# Altium integrated library Silicon Labs Wireless.IntLib: 71 symbols (part 3 of 7)
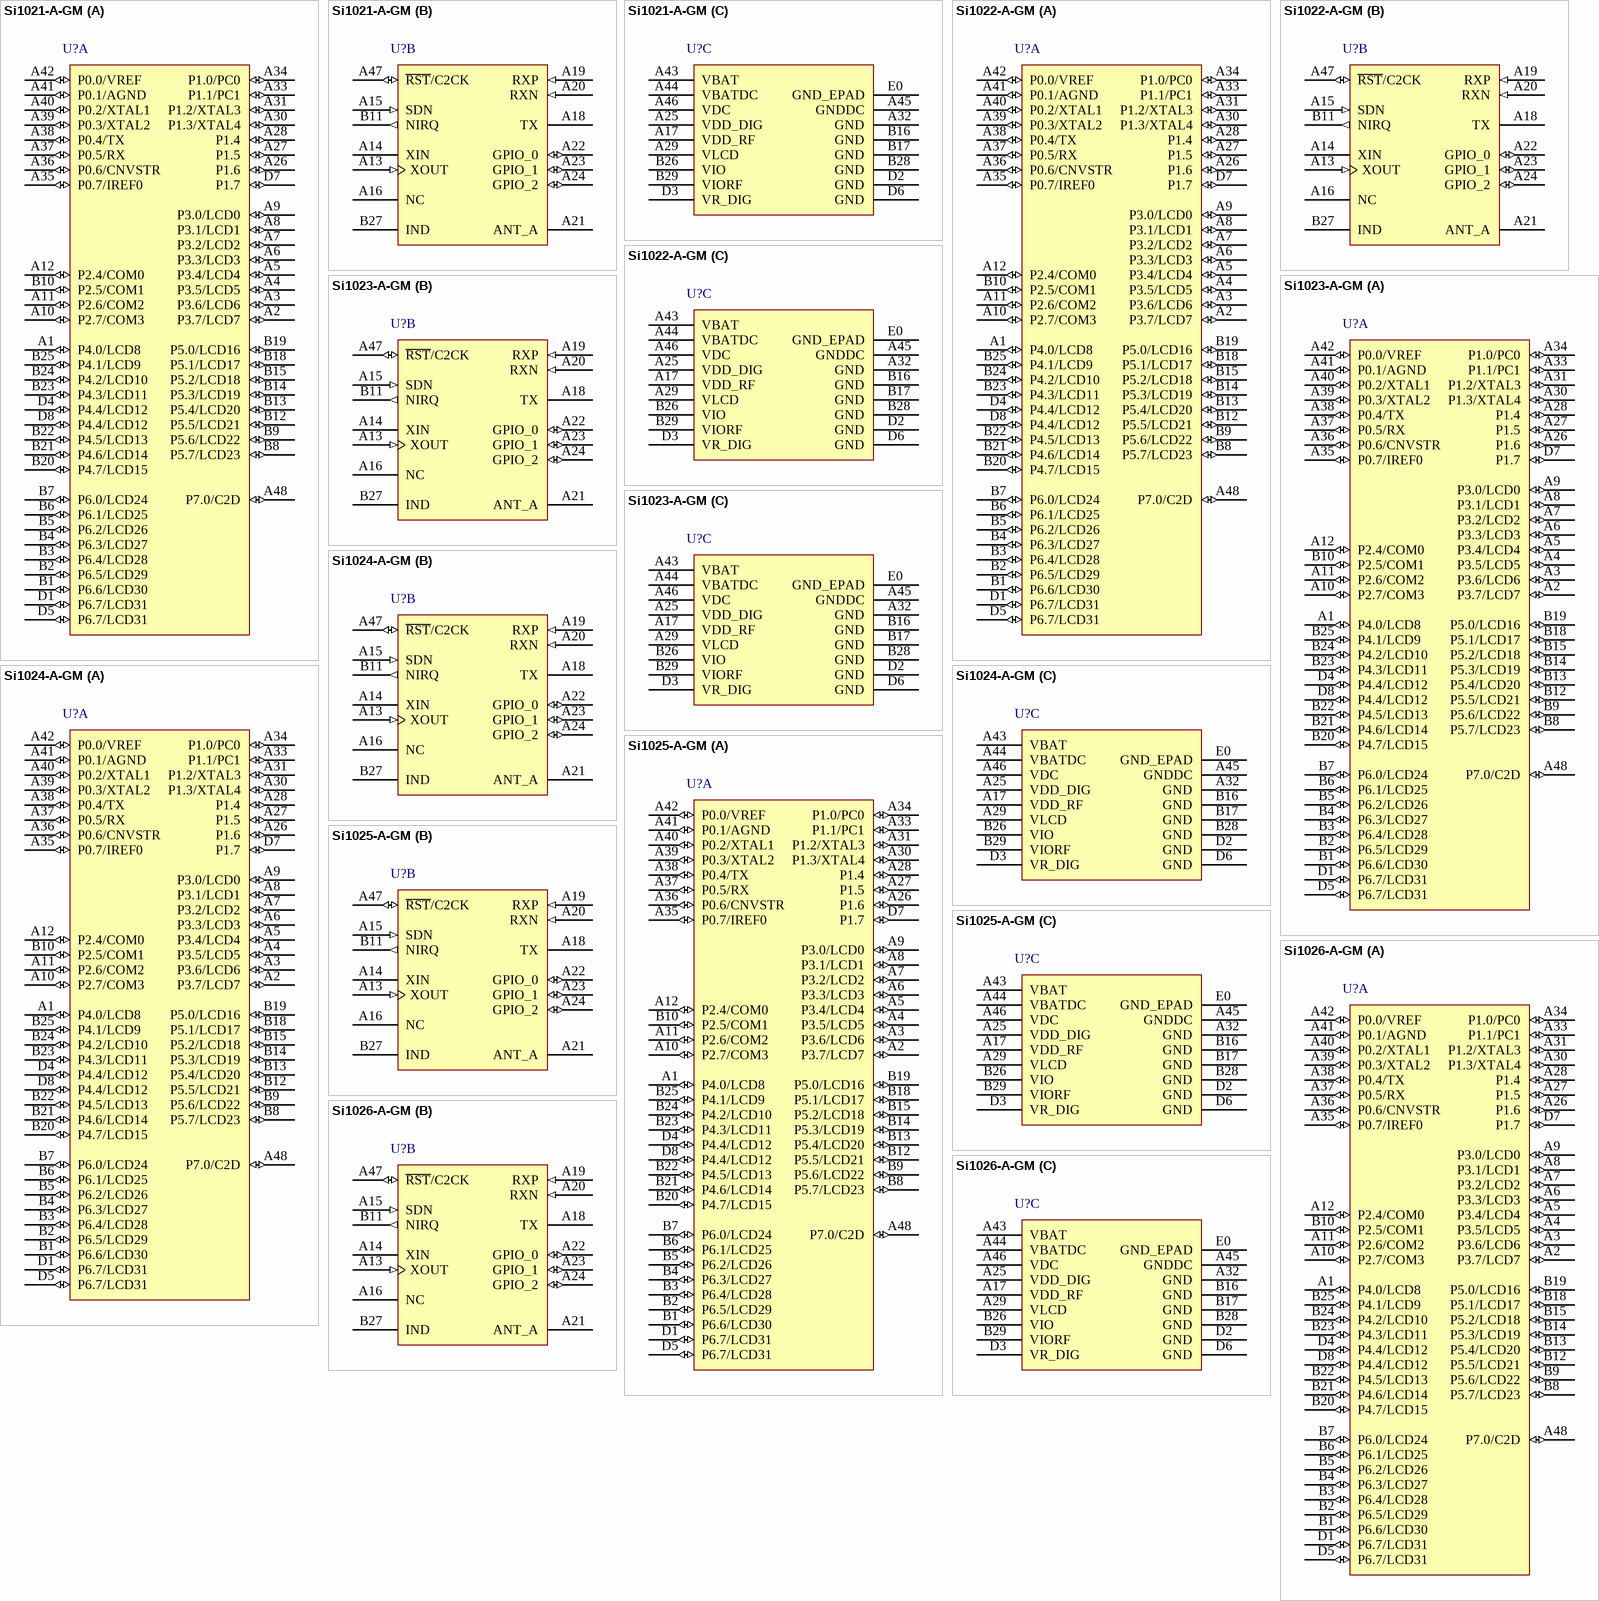
[diagram p8: symbols Si1021-A-GM to Si1026-A-GM]

## Si1021-A-GM
designator U?
Ultra Low Power, LCD MCU Family, 64 kB Flash, 4 Timers (16-Bit), -40 to 85 degC, 85-pin LGA, Tray; Manufacturer: Silicon Labs; PartNumber: Si1021-A-GM; Comparators: 2; Dig I/O Pins: 53; Flash: 64 kB; Frequency Range: 240 to 960 MHz; FSK/GFSK Data Rate: 256 kbps; Internal Osc. Accuracy: +/-2%; OOK Data Rate: 40 kbps; Output Power: 1 to 20 dBm; PCA Channels: 6; Temp Sensor: TRUE; Timers (16-bit): 4; Sub-Family: Wireless MCUs; DatasheetVersion: Rev. 0.3; PackageReference: LGA-85; PackageDescription: 85-Pin Land Grid Array, Body 6 x 8 mm, Pitch 0.5 mm; Supplier 1: Digi-Key; Supplier Part Number 1: 336-2174-ND; Supplier 2: Mouser; Supplier Part Number 2: 634-SI1021-A-GM; Packing: Tray; Mounting Technology: Surface Mount; Code_IPC: J-STD-020; ComponentLink1Description: Manufacturer URL; ComponentLink1URL: http://www.silabs.com/; ComponentLink2Description: Datasheet; ComponentLink2URL: http://www.silabs.com/Support Documents/TechnicalDocs/Si102x-3x.pdf; ComponentLink3Description: Package Specification; ComponentLink3URL: http://www.silabs.com/Support%20Documents/TechnicalDocs/Si102x-3x.pdf
footprint SLAB-LGA-85_V (LGA, 85-Leads, Body 8x6mm, Thermal Pad 2.4x5.6mm)
part A pins: A1 P4.0/LCD8 (io), A2 P3.7/LCD7 (io), A3 P3.6/LCD6 (io), A4 P3.5/LCD5 (io), A5 P3.4/LCD4 (io), A6 P3.3/LCD3 (io), A7 P3.2/LCD2 (io), A8 P3.1/LCD1 (io), A9 P3.0/LCD0 (io), A10 P2.7/COM3 (io), A11 P2.6/COM2 (io), A12 P2.4/COM0 (io), A26 P1.6 (io) "Port 1.6. See Port I/O Section for a complete description.", A27 P1.5 (io) "Port 1.5. See Port I/O Section for a complete description.", A28 P1.4 (io) "Port 1.4. See Port I/O Section for a complete description.", A30 P1.3/XTAL4 (io), A31 P1.2/XTAL3 (io), A33 P1.1/PC1 (io), A34 P1.0/PC0 (io), A35 P0.7/IREF0 (io), A36 P0.6/CNVSTR (io), A37 P0.5/RX (io), A38 P0.4/TX (io), A39 P0.3/XTAL2 (io), A40 P0.2/XTAL1 (io), A41 P0.1/AGND (io), A42 P0.0/VREF (io), A48 P7.0/C2D (io), B1 P6.6/LCD30 (io), B2 P6.5/LCD29 (io), B3 P6.4/LCD28 (io), B4 P6.3/LCD27 (io), B5 P6.2/LCD26 (io), B6 P6.1/LCD25 (io), B7 P6.0/LCD24 (io), B8 P5.7/LCD23 (io), B9 P5.6/LCD22 (io), B10 P2.5/COM1 (io), B12 P5.5/LCD21 (io), B13 P5.4/LCD20 (io), B14 P5.3/LCD19 (io), B15 P5.2/LCD18 (io), B18 P5.1/LCD17 (io), B19 P5.0/LCD16 (io), B20 P4.7/LCD15 (io), B21 P4.6/LCD14 (io), B22 P4.5/LCD13 (io), B23 P4.3/LCD11 (io), B24 P4.2/LCD10 (io), B25 P4.1/LCD9 (io), D1 P6.7/LCD31 (io), D4 P4.4/LCD12 (io), D5 P6.7/LCD31 (io), D7 P1.7 (io) "Port 1.7. See Port I/O Section for a complete description.", D8 P4.4/LCD12 (io)
part B pins: A13 XOUT (in) "Crystal Oscillator Output/External Reference Input. Connect to an external 30 MHz crystal or to an external source. If using an external source with no crystal, then DC coupling with a nominal 0.8 VDC level is recommended (See Datasheet)", A14 XIN "Crystal Oscillator Input. Connect to an external 30 MHz crystal or leave floating when driving with an external source on XOUT.", A15 SDN (in) "Shutdown input pin. SDN should be low in all modes except Shutdown mode. When SDN is high, the radio will be completely shut down, and the contents of the registers will be lost.", A16 NC "No Connect. Not connected internally to any circuitry.", A18 TX (oc) "Transmit output pin. The PA output is an open-drain connection so the L-C match must supply VDD (+3.3 VDC nominal) to this pin.", A19 RXP (in) "Differential RF input pins of the LNA. See application schematic for example matching network.", A20 RXN (in) "Differential RF input pins of the LNA. See application schematic for example matching network.", A21 ANT_A "Extra antenna or TR switch control to be used if more GPIO are required. Pin is a hardwired version of GPIO setting 11000, Antenna 2 and can be manually controlled by the antdiv[2:0] bits in register 08h. See register (See Datasheet)", A22 GPIO_0 (io) "General Purpose Digital I/O that may be configured through the registers to perform various functions including: Microcontroller Clock Output, FIFO status, POR, Wake-Up timer, Low Battery Detect, T/R switch, AntDiversity (See Datasheet)", A23 GPIO_1 (io) "General Purpose Digital I/O that may be configured through the registers to perform various functions including: Microcontroller Clock Output, FIFO status, POR, Wake-Up timer, Low Battery Detect, T/R switch, AntDiversity (See Datasheet)", A24 GPIO_2 (io) "General Purpose Digital I/O that may be configured through the registers to perform various functions including: Microcontroller Clock Output, FIFO status, POR, Wake-Up timer, Low Battery Detect, T/R switch, AntDiversity (See Datasheet)", A47 ~{RST}/C2CK (io), B11 NIRQ (out) "General Microcontroller Interrupt Status output. When the EZRadioPRO transceiver exhibits anyone of the Interrupt Events, the nIRQ pin will be set low. Please see the Control Logic registers section for more information on (See Datasheet)", B27 IND "DC-DC Inductor Pin. This pin requires a 560 nH inductor to VDC if the DC-DC converter is used."
part C pins: A17 VDD_RF (power) "+1.8 to +3.6 V supply voltage input to all analog +1.7 V regulators. The recommended VDD supply voltage is +3.3 V", A25 VDD_DIG (power) "+1.8 to +3.6 V supply voltage input to the Digital +1.7 V regulator. The recommended VDD supply voltage is +3.3 V.", A29 VLCD (power) "LCD Power Supply. This pin requires a 10 uF capacitor to stabilize the charge pump.", A32 GND (power) "Required Ground.", A43 VBAT (power) "Battery Supply Voltage. Must be 1.8 to 3.8 V.", A44 VBATDC (power) "DC0 Input Voltage. Must be 1.8 to 3.8 V.", A45 GNDDC (power) "DC-DC converter return current path. This pin is typically tied to the ground plane.", A46 VDC (power) "Alternate Power Supply Voltage. Must be 1.8 to 3.6 V. This supply voltage must always be <= VBAT. Software may select this supply voltage to power the digital logic. Positive output of the DC-DC converter. A 1 uF to 10 uF (See Datasheet)", B16 GND (power) "Required Ground.", B17 GND (power) "Required Ground.", B26 VIO (power) "I/O Power Supply for P0.0-P1.4 and P2.4-P7.0 pins. This supply voltage must always be <= VBAT.", B28 GND (power) "Required Ground.", B29 VIORF (power) "I/O Power Supply for P1.5-P2.3 pins. This supply voltage must always be <= VBAT", D2 GND (power) "Required Ground.", D3 VR_DIG (power) "Regulated Output Voltage of the Digital 1.7 V regulator. A 1 uF decoupling capacitor is required.", D6 GND (power) "Required Ground.", E0 GND_EPAD (power)

## Si1022-A-GM
designator U?
Ultra Low Power, LCD MCU Family, 32 kB Flash, 4 Timers (16-Bit), -40 to 85 degC, 85-pin LGA, Tray; Manufacturer: Silicon Labs; PartNumber: Si1022-A-GM; Comparators: 2; Dig I/O Pins: 53; Flash: 32 kB; Frequency Range: 240 to 960 MHz; FSK/GFSK Data Rate: 256 kbps; Internal Osc. Accuracy: +/-2%; OOK Data Rate: 40 kbps; Output Power: 1 to 20 dBm; PCA Channels: 6; Temp Sensor: TRUE; Timers (16-bit): 4; Sub-Family: Wireless MCUs; DatasheetVersion: Rev. 0.3; PackageReference: LGA-85; PackageDescription: 85-Pin Land Grid Array, Body 6 x 8 mm, Pitch 0.5 mm; Supplier 1: Digi-Key; Supplier Part Number 1: 336-2175-ND; Supplier 2: Mouser; Supplier Part Number 2: 634-SI1022-A-GM; Packing: Tray; Mounting Technology: Surface Mount; Code_IPC: J-STD-020; ComponentLink1Description: Manufacturer URL; ComponentLink1URL: http://www.silabs.com/; ComponentLink2Description: Datasheet; ComponentLink2URL: http://www.silabs.com/Support Documents/TechnicalDocs/Si102x-3x.pdf; ComponentLink3Description: Package Specification; ComponentLink3URL: http://www.silabs.com/Support%20Documents/TechnicalDocs/Si102x-3x.pdf
footprint SLAB-LGA-85_V (LGA, 85-Leads, Body 8x6mm, Thermal Pad 2.4x5.6mm)
part A pins: A1 P4.0/LCD8 (io), A2 P3.7/LCD7 (io), A3 P3.6/LCD6 (io), A4 P3.5/LCD5 (io), A5 P3.4/LCD4 (io), A6 P3.3/LCD3 (io), A7 P3.2/LCD2 (io), A8 P3.1/LCD1 (io), A9 P3.0/LCD0 (io), A10 P2.7/COM3 (io), A11 P2.6/COM2 (io), A12 P2.4/COM0 (io), A26 P1.6 (io) "Port 1.6. See Port I/O Section for a complete description.", A27 P1.5 (io) "Port 1.5. See Port I/O Section for a complete description.", A28 P1.4 (io) "Port 1.4. See Port I/O Section for a complete description.", A30 P1.3/XTAL4 (io), A31 P1.2/XTAL3 (io), A33 P1.1/PC1 (io), A34 P1.0/PC0 (io), A35 P0.7/IREF0 (io), A36 P0.6/CNVSTR (io), A37 P0.5/RX (io), A38 P0.4/TX (io), A39 P0.3/XTAL2 (io), A40 P0.2/XTAL1 (io), A41 P0.1/AGND (io), A42 P0.0/VREF (io), A48 P7.0/C2D (io), B1 P6.6/LCD30 (io), B2 P6.5/LCD29 (io), B3 P6.4/LCD28 (io), B4 P6.3/LCD27 (io), B5 P6.2/LCD26 (io), B6 P6.1/LCD25 (io), B7 P6.0/LCD24 (io), B8 P5.7/LCD23 (io), B9 P5.6/LCD22 (io), B10 P2.5/COM1 (io), B12 P5.5/LCD21 (io), B13 P5.4/LCD20 (io), B14 P5.3/LCD19 (io), B15 P5.2/LCD18 (io), B18 P5.1/LCD17 (io), B19 P5.0/LCD16 (io), B20 P4.7/LCD15 (io), B21 P4.6/LCD14 (io), B22 P4.5/LCD13 (io), B23 P4.3/LCD11 (io), B24 P4.2/LCD10 (io), B25 P4.1/LCD9 (io), D1 P6.7/LCD31 (io), D4 P4.4/LCD12 (io), D5 P6.7/LCD31 (io), D7 P1.7 (io) "Port 1.7. See Port I/O Section for a complete description.", D8 P4.4/LCD12 (io)
part B pins: A13 XOUT (in) "Crystal Oscillator Output/External Reference Input. Connect to an external 30 MHz crystal or to an external source. If using an external source with no crystal, then DC coupling with a nominal 0.8 VDC level is recommended (See Datasheet)", A14 XIN "Crystal Oscillator Input. Connect to an external 30 MHz crystal or leave floating when driving with an external source on XOUT.", A15 SDN (in) "Shutdown input pin. SDN should be low in all modes except Shutdown mode. When SDN is high, the radio will be completely shut down, and the contents of the registers will be lost.", A16 NC "No Connect. Not connected internally to any circuitry.", A18 TX (oc) "Transmit output pin. The PA output is an open-drain connection so the L-C match must supply VDD (+3.3 VDC nominal) to this pin.", A19 RXP (in) "Differential RF input pins of the LNA. See application schematic for example matching network.", A20 RXN (in) "Differential RF input pins of the LNA. See application schematic for example matching network.", A21 ANT_A "Extra antenna or TR switch control to be used if more GPIO are required. Pin is a hardwired version of GPIO setting 11000, Antenna 2 and can be manually controlled by the antdiv[2:0] bits in register 08h. See register (See Datasheet)", A22 GPIO_0 (io) "General Purpose Digital I/O that may be configured through the registers to perform various functions including: Microcontroller Clock Output, FIFO status, POR, Wake-Up timer, Low Battery Detect, T/R switch, AntDiversity (See Datasheet)", A23 GPIO_1 (io) "General Purpose Digital I/O that may be configured through the registers to perform various functions including: Microcontroller Clock Output, FIFO status, POR, Wake-Up timer, Low Battery Detect, T/R switch, AntDiversity (See Datasheet)", A24 GPIO_2 (io) "General Purpose Digital I/O that may be configured through the registers to perform various functions including: Microcontroller Clock Output, FIFO status, POR, Wake-Up timer, Low Battery Detect, T/R switch, AntDiversity (See Datasheet)", A47 ~{RST}/C2CK (io), B11 NIRQ (out) "General Microcontroller Interrupt Status output. When the EZRadioPRO transceiver exhibits anyone of the Interrupt Events, the nIRQ pin will be set low. Please see the Control Logic registers section for more information on (See Datasheet)", B27 IND "DC-DC Inductor Pin. This pin requires a 560 nH inductor to VDC if the DC-DC converter is used."
part C pins: A17 VDD_RF (power) "+1.8 to +3.6 V supply voltage input to all analog +1.7 V regulators. The recommended VDD supply voltage is +3.3 V", A25 VDD_DIG (power) "+1.8 to +3.6 V supply voltage input to the Digital +1.7 V regulator. The recommended VDD supply voltage is +3.3 V.", A29 VLCD (power) "LCD Power Supply. This pin requires a 10 uF capacitor to stabilize the charge pump.", A32 GND (power) "Required Ground.", A43 VBAT (power) "Battery Supply Voltage. Must be 1.8 to 3.8 V.", A44 VBATDC (power) "DC0 Input Voltage. Must be 1.8 to 3.8 V.", A45 GNDDC (power) "DC-DC converter return current path. This pin is typically tied to the ground plane.", A46 VDC (power) "Alternate Power Supply Voltage. Must be 1.8 to 3.6 V. This supply voltage must always be <= VBAT. Software may select this supply voltage to power the digital logic. Positive output of the DC-DC converter. A 1 uF to 10 uF (See Datasheet)", B16 GND (power) "Required Ground.", B17 GND (power) "Required Ground.", B26 VIO (power) "I/O Power Supply for P0.0-P1.4 and P2.4-P7.0 pins. This supply voltage must always be <= VBAT.", B28 GND (power) "Required Ground.", B29 VIORF (power) "I/O Power Supply for P1.5-P2.3 pins. This supply voltage must always be <= VBAT", D2 GND (power) "Required Ground.", D3 VR_DIG (power) "Regulated Output Voltage of the Digital 1.7 V regulator. A 1 uF decoupling capacitor is required.", D6 GND (power) "Required Ground.", E0 GND_EPAD (power)

## Si1023-A-GM
designator U?
Ultra Low Power, LCD MCU Family, 16 kB Flash, 4 Timers (16-Bit), -40 to 85 degC, 85-pin LGA, Tray; Manufacturer: Silicon Labs; PartNumber: Si1023-A-GM; Comparators: 2; Dig I/O Pins: 53; Flash: 16 kB; Frequency Range: 240 to 960 MHz; FSK/GFSK Data Rate: 256 kbps; Internal Osc. Accuracy: +/-2%; OOK Data Rate: 40 kbps; Output Power: 1 to 20 dBm; PCA Channels: 6; Temp Sensor: TRUE; Timers (16-bit): 4; Sub-Family: Wireless MCUs; DatasheetVersion: Rev. 0.3; PackageReference: LGA-85; PackageDescription: 85-Pin Land Grid Array, Body 6 x 8 mm, Pitch 0.5 mm; Supplier 1: Digi-Key; Supplier Part Number 1: 336-2176-ND; Supplier 2: Mouser; Supplier Part Number 2: 634-SI1023-A-GM; Packing: Tray; Mounting Technology: Surface Mount; Code_IPC: J-STD-020; ComponentLink1Description: Manufacturer URL; ComponentLink1URL: http://www.silabs.com/; ComponentLink2Description: Datasheet; ComponentLink2URL: http://www.silabs.com/Support Documents/TechnicalDocs/Si102x-3x.pdf; ComponentLink3Description: Package Specification; ComponentLink3URL: http://www.silabs.com/Support%20Documents/TechnicalDocs/Si102x-3x.pdf
footprint SLAB-LGA-85_V (LGA, 85-Leads, Body 8x6mm, Thermal Pad 2.4x5.6mm)
part A pins: A1 P4.0/LCD8 (io), A2 P3.7/LCD7 (io), A3 P3.6/LCD6 (io), A4 P3.5/LCD5 (io), A5 P3.4/LCD4 (io), A6 P3.3/LCD3 (io), A7 P3.2/LCD2 (io), A8 P3.1/LCD1 (io), A9 P3.0/LCD0 (io), A10 P2.7/COM3 (io), A11 P2.6/COM2 (io), A12 P2.4/COM0 (io), A26 P1.6 (io) "Port 1.6. See Port I/O Section for a complete description.", A27 P1.5 (io) "Port 1.5. See Port I/O Section for a complete description.", A28 P1.4 (io) "Port 1.4. See Port I/O Section for a complete description.", A30 P1.3/XTAL4 (io), A31 P1.2/XTAL3 (io), A33 P1.1/PC1 (io), A34 P1.0/PC0 (io), A35 P0.7/IREF0 (io), A36 P0.6/CNVSTR (io), A37 P0.5/RX (io), A38 P0.4/TX (io), A39 P0.3/XTAL2 (io), A40 P0.2/XTAL1 (io), A41 P0.1/AGND (io), A42 P0.0/VREF (io), A48 P7.0/C2D (io), B1 P6.6/LCD30 (io), B2 P6.5/LCD29 (io), B3 P6.4/LCD28 (io), B4 P6.3/LCD27 (io), B5 P6.2/LCD26 (io), B6 P6.1/LCD25 (io), B7 P6.0/LCD24 (io), B8 P5.7/LCD23 (io), B9 P5.6/LCD22 (io), B10 P2.5/COM1 (io), B12 P5.5/LCD21 (io), B13 P5.4/LCD20 (io), B14 P5.3/LCD19 (io), B15 P5.2/LCD18 (io), B18 P5.1/LCD17 (io), B19 P5.0/LCD16 (io), B20 P4.7/LCD15 (io), B21 P4.6/LCD14 (io), B22 P4.5/LCD13 (io), B23 P4.3/LCD11 (io), B24 P4.2/LCD10 (io), B25 P4.1/LCD9 (io), D1 P6.7/LCD31 (io), D4 P4.4/LCD12 (io), D5 P6.7/LCD31 (io), D7 P1.7 (io) "Port 1.7. See Port I/O Section for a complete description.", D8 P4.4/LCD12 (io)
part B pins: A13 XOUT (in) "Crystal Oscillator Output/External Reference Input. Connect to an external 30 MHz crystal or to an external source. If using an external source with no crystal, then DC coupling with a nominal 0.8 VDC level is recommended (See Datasheet)", A14 XIN "Crystal Oscillator Input. Connect to an external 30 MHz crystal or leave floating when driving with an external source on XOUT.", A15 SDN (in) "Shutdown input pin. SDN should be low in all modes except Shutdown mode. When SDN is high, the radio will be completely shut down, and the contents of the registers will be lost.", A16 NC "No Connect. Not connected internally to any circuitry.", A18 TX (oc) "Transmit output pin. The PA output is an open-drain connection so the L-C match must supply VDD (+3.3 VDC nominal) to this pin.", A19 RXP (in) "Differential RF input pins of the LNA. See application schematic for example matching network.", A20 RXN (in) "Differential RF input pins of the LNA. See application schematic for example matching network.", A21 ANT_A "Extra antenna or TR switch control to be used if more GPIO are required. Pin is a hardwired version of GPIO setting 11000, Antenna 2 and can be manually controlled by the antdiv[2:0] bits in register 08h. See register (See Datasheet)", A22 GPIO_0 (io) "General Purpose Digital I/O that may be configured through the registers to perform various functions including: Microcontroller Clock Output, FIFO status, POR, Wake-Up timer, Low Battery Detect, T/R switch, AntDiversity (See Datasheet)", A23 GPIO_1 (io) "General Purpose Digital I/O that may be configured through the registers to perform various functions including: Microcontroller Clock Output, FIFO status, POR, Wake-Up timer, Low Battery Detect, T/R switch, AntDiversity (See Datasheet)", A24 GPIO_2 (io) "General Purpose Digital I/O that may be configured through the registers to perform various functions including: Microcontroller Clock Output, FIFO status, POR, Wake-Up timer, Low Battery Detect, T/R switch, AntDiversity (See Datasheet)", A47 ~{RST}/C2CK (io), B11 NIRQ (out) "General Microcontroller Interrupt Status output. When the EZRadioPRO transceiver exhibits anyone of the Interrupt Events, the nIRQ pin will be set low. Please see the Control Logic registers section for more information on (See Datasheet)", B27 IND "DC-DC Inductor Pin. This pin requires a 560 nH inductor to VDC if the DC-DC converter is used."
part C pins: A17 VDD_RF (power) "+1.8 to +3.6 V supply voltage input to all analog +1.7 V regulators. The recommended VDD supply voltage is +3.3 V", A25 VDD_DIG (power) "+1.8 to +3.6 V supply voltage input to the Digital +1.7 V regulator. The recommended VDD supply voltage is +3.3 V.", A29 VLCD (power) "LCD Power Supply. This pin requires a 10 uF capacitor to stabilize the charge pump.", A32 GND (power) "Required Ground.", A43 VBAT (power) "Battery Supply Voltage. Must be 1.8 to 3.8 V.", A44 VBATDC (power) "DC0 Input Voltage. Must be 1.8 to 3.8 V.", A45 GNDDC (power) "DC-DC converter return current path. This pin is typically tied to the ground plane.", A46 VDC (power) "Alternate Power Supply Voltage. Must be 1.8 to 3.6 V. This supply voltage must always be <= VBAT. Software may select this supply voltage to power the digital logic. Positive output of the DC-DC converter. A 1 uF to 10 uF (See Datasheet)", B16 GND (power) "Required Ground.", B17 GND (power) "Required Ground.", B26 VIO (power) "I/O Power Supply for P0.0-P1.4 and P2.4-P7.0 pins. This supply voltage must always be <= VBAT.", B28 GND (power) "Required Ground.", B29 VIORF (power) "I/O Power Supply for P1.5-P2.3 pins. This supply voltage must always be <= VBAT", D2 GND (power) "Required Ground.", D3 VR_DIG (power) "Regulated Output Voltage of the Digital 1.7 V regulator. A 1 uF decoupling capacitor is required.", D6 GND (power) "Required Ground.", E0 GND_EPAD (power)

## Si1024-A-GM
designator U?
Ultra Low Power, LCD MCU Family, 128 kB Flash, 4 Timers (16-Bit), -40 to 85 degC, 85-pin LGA, Tray; Manufacturer: Silicon Labs; PartNumber: Si1024-A-GM; Comparators: 2; Dig I/O Pins: 53; Flash: 128 kB; Frequency Range: 240 to 960 MHz; FSK/GFSK Data Rate: 256 kbps; Internal Osc. Accuracy: +/-2%; OOK Data Rate: 40 kbps; Output Power: -4 to 13 dBm; PCA Channels: 6; Temp Sensor: TRUE; Timers (16-bit): 4; Sub-Family: Wireless MCUs; DatasheetVersion: Rev. 0.3; PackageReference: LGA-85; PackageDescription: 85-Pin Land Grid Array, Body 6 x 8 mm, Pitch 0.5 mm; Supplier 1: Digi-Key; Supplier Part Number 1: 336-2177-ND; Supplier 2: Mouser; Supplier Part Number 2: 634-SI1024-A-GM; Packing: Tray; Mounting Technology: Surface Mount; Code_IPC: J-STD-020; ComponentLink1Description: Manufacturer URL; ComponentLink1URL: http://www.silabs.com/; ComponentLink2Description: Datasheet; ComponentLink2URL: http://www.silabs.com/Support Documents/TechnicalDocs/Si102x-3x.pdf; ComponentLink3Description: Package Specification; ComponentLink3URL: http://www.silabs.com/Support%20Documents/TechnicalDocs/Si102x-3x.pdf
footprint SLAB-LGA-85_V (LGA, 85-Leads, Body 8x6mm, Thermal Pad 2.4x5.6mm)
part A pins: A1 P4.0/LCD8 (io), A2 P3.7/LCD7 (io), A3 P3.6/LCD6 (io), A4 P3.5/LCD5 (io), A5 P3.4/LCD4 (io), A6 P3.3/LCD3 (io), A7 P3.2/LCD2 (io), A8 P3.1/LCD1 (io), A9 P3.0/LCD0 (io), A10 P2.7/COM3 (io), A11 P2.6/COM2 (io), A12 P2.4/COM0 (io), A26 P1.6 (io) "Port 1.6. See Port I/O Section for a complete description.", A27 P1.5 (io) "Port 1.5. See Port I/O Section for a complete description.", A28 P1.4 (io) "Port 1.4. See Port I/O Section for a complete description.", A30 P1.3/XTAL4 (io), A31 P1.2/XTAL3 (io), A33 P1.1/PC1 (io), A34 P1.0/PC0 (io), A35 P0.7/IREF0 (io), A36 P0.6/CNVSTR (io), A37 P0.5/RX (io), A38 P0.4/TX (io), A39 P0.3/XTAL2 (io), A40 P0.2/XTAL1 (io), A41 P0.1/AGND (io), A42 P0.0/VREF (io), A48 P7.0/C2D (io), B1 P6.6/LCD30 (io), B2 P6.5/LCD29 (io), B3 P6.4/LCD28 (io), B4 P6.3/LCD27 (io), B5 P6.2/LCD26 (io), B6 P6.1/LCD25 (io), B7 P6.0/LCD24 (io), B8 P5.7/LCD23 (io), B9 P5.6/LCD22 (io), B10 P2.5/COM1 (io), B12 P5.5/LCD21 (io), B13 P5.4/LCD20 (io), B14 P5.3/LCD19 (io), B15 P5.2/LCD18 (io), B18 P5.1/LCD17 (io), B19 P5.0/LCD16 (io), B20 P4.7/LCD15 (io), B21 P4.6/LCD14 (io), B22 P4.5/LCD13 (io), B23 P4.3/LCD11 (io), B24 P4.2/LCD10 (io), B25 P4.1/LCD9 (io), D1 P6.7/LCD31 (io), D4 P4.4/LCD12 (io), D5 P6.7/LCD31 (io), D7 P1.7 (io) "Port 1.7. See Port I/O Section for a complete description.", D8 P4.4/LCD12 (io)
part B pins: A13 XOUT (in) "Crystal Oscillator Output/External Reference Input. Connect to an external 30 MHz crystal or to an external source. If using an external source with no crystal, then DC coupling with a nominal 0.8 VDC level is recommended (See Datasheet)", A14 XIN "Crystal Oscillator Input. Connect to an external 30 MHz crystal or leave floating when driving with an external source on XOUT.", A15 SDN (in) "Shutdown input pin. SDN should be low in all modes except Shutdown mode. When SDN is high, the radio will be completely shut down, and the contents of the registers will be lost.", A16 NC "No Connect. Not connected internally to any circuitry.", A18 TX (oc) "Transmit output pin. The PA output is an open-drain connection so the L-C match must supply VDD (+3.3 VDC nominal) to this pin.", A19 RXP (in) "Differential RF input pins of the LNA. See application schematic for example matching network.", A20 RXN (in) "Differential RF input pins of the LNA. See application schematic for example matching network.", A21 ANT_A "Extra antenna or TR switch control to be used if more GPIO are required. Pin is a hardwired version of GPIO setting 11000, Antenna 2 and can be manually controlled by the antdiv[2:0] bits in register 08h. See register (See Datasheet)", A22 GPIO_0 (io) "General Purpose Digital I/O that may be configured through the registers to perform various functions including: Microcontroller Clock Output, FIFO status, POR, Wake-Up timer, Low Battery Detect, T/R switch, AntDiversity (See Datasheet)", A23 GPIO_1 (io) "General Purpose Digital I/O that may be configured through the registers to perform various functions including: Microcontroller Clock Output, FIFO status, POR, Wake-Up timer, Low Battery Detect, T/R switch, AntDiversity (See Datasheet)", A24 GPIO_2 (io) "General Purpose Digital I/O that may be configured through the registers to perform various functions including: Microcontroller Clock Output, FIFO status, POR, Wake-Up timer, Low Battery Detect, T/R switch, AntDiversity (See Datasheet)", A47 ~{RST}/C2CK (io), B11 NIRQ (out) "General Microcontroller Interrupt Status output. When the EZRadioPRO transceiver exhibits anyone of the Interrupt Events, the nIRQ pin will be set low. Please see the Control Logic registers section for more information on (See Datasheet)", B27 IND "DC-DC Inductor Pin. This pin requires a 560 nH inductor to VDC if the DC-DC converter is used."
part C pins: A17 VDD_RF (power) "+1.8 to +3.6 V supply voltage input to all analog +1.7 V regulators. The recommended VDD supply voltage is +3.3 V", A25 VDD_DIG (power) "+1.8 to +3.6 V supply voltage input to the Digital +1.7 V regulator. The recommended VDD supply voltage is +3.3 V.", A29 VLCD (power) "LCD Power Supply. This pin requires a 10 uF capacitor to stabilize the charge pump.", A32 GND (power) "Required Ground.", A43 VBAT (power) "Battery Supply Voltage. Must be 1.8 to 3.8 V.", A44 VBATDC (power) "DC0 Input Voltage. Must be 1.8 to 3.8 V.", A45 GNDDC (power) "DC-DC converter return current path. This pin is typically tied to the ground plane.", A46 VDC (power) "Alternate Power Supply Voltage. Must be 1.8 to 3.6 V. This supply voltage must always be <= VBAT. Software may select this supply voltage to power the digital logic. Positive output of the DC-DC converter. A 1 uF to 10 uF (See Datasheet)", B16 GND (power) "Required Ground.", B17 GND (power) "Required Ground.", B26 VIO (power) "I/O Power Supply for P0.0-P1.4 and P2.4-P7.0 pins. This supply voltage must always be <= VBAT.", B28 GND (power) "Required Ground.", B29 VIORF (power) "I/O Power Supply for P1.5-P2.3 pins. This supply voltage must always be <= VBAT", D2 GND (power) "Required Ground.", D3 VR_DIG (power) "Regulated Output Voltage of the Digital 1.7 V regulator. A 1 uF decoupling capacitor is required.", D6 GND (power) "Required Ground.", E0 GND_EPAD (power)

## Si1025-A-GM
designator U?
Ultra Low Power, LCD MCU Family, 64 kB Flash, 4 Timers (16-Bit), -40 to 85 degC, 85-pin LGA, Tray; Manufacturer: Silicon Labs; PartNumber: Si1025-A-GM; Comparators: 2; Dig I/O Pins: 53; Flash: 64 kB; Frequency Range: 240 to 960 MHz; FSK/GFSK Data Rate: 256 kbps; Internal Osc. Accuracy: +/-2%; OOK Data Rate: 40 kbps; Output Power: -4 to 13 dBm; PCA Channels: 6; Temp Sensor: TRUE; Timers (16-bit): 4; Sub-Family: Wireless MCUs; DatasheetVersion: Rev. 0.3; PackageReference: LGA-85; PackageDescription: 85-Pin Land Grid Array, Body 6 x 8 mm, Pitch 0.5 mm; Supplier 1: Digi-Key; Supplier Part Number 1: 336-2178-ND; Supplier 2: Mouser; Supplier Part Number 2: 634-SI1025-A-GM; Packing: Tray; Mounting Technology: Surface Mount; Code_IPC: J-STD-020; ComponentLink1Description: Manufacturer URL; ComponentLink1URL: http://www.silabs.com/; ComponentLink2Description: Datasheet; ComponentLink2URL: http://www.silabs.com/Support Documents/TechnicalDocs/Si102x-3x.pdf; ComponentLink3Description: Package Specification; ComponentLink3URL: http://www.silabs.com/Support%20Documents/TechnicalDocs/Si102x-3x.pdf
footprint SLAB-LGA-85_V (LGA, 85-Leads, Body 8x6mm, Thermal Pad 2.4x5.6mm)
part A pins: A1 P4.0/LCD8 (io), A2 P3.7/LCD7 (io), A3 P3.6/LCD6 (io), A4 P3.5/LCD5 (io), A5 P3.4/LCD4 (io), A6 P3.3/LCD3 (io), A7 P3.2/LCD2 (io), A8 P3.1/LCD1 (io), A9 P3.0/LCD0 (io), A10 P2.7/COM3 (io), A11 P2.6/COM2 (io), A12 P2.4/COM0 (io), A26 P1.6 (io) "Port 1.6. See Port I/O Section for a complete description.", A27 P1.5 (io) "Port 1.5. See Port I/O Section for a complete description.", A28 P1.4 (io) "Port 1.4. See Port I/O Section for a complete description.", A30 P1.3/XTAL4 (io), A31 P1.2/XTAL3 (io), A33 P1.1/PC1 (io), A34 P1.0/PC0 (io), A35 P0.7/IREF0 (io), A36 P0.6/CNVSTR (io), A37 P0.5/RX (io), A38 P0.4/TX (io), A39 P0.3/XTAL2 (io), A40 P0.2/XTAL1 (io), A41 P0.1/AGND (io), A42 P0.0/VREF (io), A48 P7.0/C2D (io), B1 P6.6/LCD30 (io), B2 P6.5/LCD29 (io), B3 P6.4/LCD28 (io), B4 P6.3/LCD27 (io), B5 P6.2/LCD26 (io), B6 P6.1/LCD25 (io), B7 P6.0/LCD24 (io), B8 P5.7/LCD23 (io), B9 P5.6/LCD22 (io), B10 P2.5/COM1 (io), B12 P5.5/LCD21 (io), B13 P5.4/LCD20 (io), B14 P5.3/LCD19 (io), B15 P5.2/LCD18 (io), B18 P5.1/LCD17 (io), B19 P5.0/LCD16 (io), B20 P4.7/LCD15 (io), B21 P4.6/LCD14 (io), B22 P4.5/LCD13 (io), B23 P4.3/LCD11 (io), B24 P4.2/LCD10 (io), B25 P4.1/LCD9 (io), D1 P6.7/LCD31 (io), D4 P4.4/LCD12 (io), D5 P6.7/LCD31 (io), D7 P1.7 (io) "Port 1.7. See Port I/O Section for a complete description.", D8 P4.4/LCD12 (io)
part B pins: A13 XOUT (in) "Crystal Oscillator Output/External Reference Input. Connect to an external 30 MHz crystal or to an external source. If using an external source with no crystal, then DC coupling with a nominal 0.8 VDC level is recommended (See Datasheet)", A14 XIN "Crystal Oscillator Input. Connect to an external 30 MHz crystal or leave floating when driving with an external source on XOUT.", A15 SDN (in) "Shutdown input pin. SDN should be low in all modes except Shutdown mode. When SDN is high, the radio will be completely shut down, and the contents of the registers will be lost.", A16 NC "No Connect. Not connected internally to any circuitry.", A18 TX (oc) "Transmit output pin. The PA output is an open-drain connection so the L-C match must supply VDD (+3.3 VDC nominal) to this pin.", A19 RXP (in) "Differential RF input pins of the LNA. See application schematic for example matching network.", A20 RXN (in) "Differential RF input pins of the LNA. See application schematic for example matching network.", A21 ANT_A "Extra antenna or TR switch control to be used if more GPIO are required. Pin is a hardwired version of GPIO setting 11000, Antenna 2 and can be manually controlled by the antdiv[2:0] bits in register 08h. See register (See Datasheet)", A22 GPIO_0 (io) "General Purpose Digital I/O that may be configured through the registers to perform various functions including: Microcontroller Clock Output, FIFO status, POR, Wake-Up timer, Low Battery Detect, T/R switch, AntDiversity (See Datasheet)", A23 GPIO_1 (io) "General Purpose Digital I/O that may be configured through the registers to perform various functions including: Microcontroller Clock Output, FIFO status, POR, Wake-Up timer, Low Battery Detect, T/R switch, AntDiversity (See Datasheet)", A24 GPIO_2 (io) "General Purpose Digital I/O that may be configured through the registers to perform various functions including: Microcontroller Clock Output, FIFO status, POR, Wake-Up timer, Low Battery Detect, T/R switch, AntDiversity (See Datasheet)", A47 ~{RST}/C2CK (io), B11 NIRQ (out) "General Microcontroller Interrupt Status output. When the EZRadioPRO transceiver exhibits anyone of the Interrupt Events, the nIRQ pin will be set low. Please see the Control Logic registers section for more information on (See Datasheet)", B27 IND "DC-DC Inductor Pin. This pin requires a 560 nH inductor to VDC if the DC-DC converter is used."
part C pins: A17 VDD_RF (power) "+1.8 to +3.6 V supply voltage input to all analog +1.7 V regulators. The recommended VDD supply voltage is +3.3 V", A25 VDD_DIG (power) "+1.8 to +3.6 V supply voltage input to the Digital +1.7 V regulator. The recommended VDD supply voltage is +3.3 V.", A29 VLCD (power) "LCD Power Supply. This pin requires a 10 uF capacitor to stabilize the charge pump.", A32 GND (power) "Required Ground.", A43 VBAT (power) "Battery Supply Voltage. Must be 1.8 to 3.8 V.", A44 VBATDC (power) "DC0 Input Voltage. Must be 1.8 to 3.8 V.", A45 GNDDC (power) "DC-DC converter return current path. This pin is typically tied to the ground plane.", A46 VDC (power) "Alternate Power Supply Voltage. Must be 1.8 to 3.6 V. This supply voltage must always be <= VBAT. Software may select this supply voltage to power the digital logic. Positive output of the DC-DC converter. A 1 uF to 10 uF (See Datasheet)", B16 GND (power) "Required Ground.", B17 GND (power) "Required Ground.", B26 VIO (power) "I/O Power Supply for P0.0-P1.4 and P2.4-P7.0 pins. This supply voltage must always be <= VBAT.", B28 GND (power) "Required Ground.", B29 VIORF (power) "I/O Power Supply for P1.5-P2.3 pins. This supply voltage must always be <= VBAT", D2 GND (power) "Required Ground.", D3 VR_DIG (power) "Regulated Output Voltage of the Digital 1.7 V regulator. A 1 uF decoupling capacitor is required.", D6 GND (power) "Required Ground.", E0 GND_EPAD (power)

## Si1026-A-GM
designator U?
Ultra Low Power, LCD MCU Family, 32 kB Flash, 4 Timers (16-Bit), -40 to 85 degC, 85-pin LGA, Tray; Manufacturer: Silicon Labs; PartNumber: Si1026-A-GM; Comparators: 2; Dig I/O Pins: 53; Flash: 32 kB; Frequency Range: 240 to 960 MHz; FSK/GFSK Data Rate: 256 kbps; Internal Osc. Accuracy: +/-2%; OOK Data Rate: 40 kbps; Output Power: -4 to 13 dBm; PCA Channels: 6; Temp Sensor: TRUE; Timers (16-bit): 4; Sub-Family: Wireless MCUs; DatasheetVersion: Rev. 0.3; PackageReference: LGA-85; PackageDescription: 85-Pin Land Grid Array, Body 6 x 8 mm, Pitch 0.5 mm; Supplier 1: Digi-Key; Supplier Part Number 1: 336-2179-ND; Supplier 2: Mouser; Supplier Part Number 2: 634-SI1026-A-GM; Packing: Tray; Mounting Technology: Surface Mount; Code_IPC: J-STD-020; ComponentLink1Description: Manufacturer URL; ComponentLink1URL: http://www.silabs.com/; ComponentLink2Description: Datasheet; ComponentLink2URL: http://www.silabs.com/Support Documents/TechnicalDocs/Si102x-3x.pdf; ComponentLink3Description: Package Specification; ComponentLink3URL: http://www.silabs.com/Support%20Documents/TechnicalDocs/Si102x-3x.pdf
footprint SLAB-LGA-85_V (LGA, 85-Leads, Body 8x6mm, Thermal Pad 2.4x5.6mm)
part A pins: A1 P4.0/LCD8 (io), A2 P3.7/LCD7 (io), A3 P3.6/LCD6 (io), A4 P3.5/LCD5 (io), A5 P3.4/LCD4 (io), A6 P3.3/LCD3 (io), A7 P3.2/LCD2 (io), A8 P3.1/LCD1 (io), A9 P3.0/LCD0 (io), A10 P2.7/COM3 (io), A11 P2.6/COM2 (io), A12 P2.4/COM0 (io), A26 P1.6 (io) "Port 1.6. See Port I/O Section for a complete description.", A27 P1.5 (io) "Port 1.5. See Port I/O Section for a complete description.", A28 P1.4 (io) "Port 1.4. See Port I/O Section for a complete description.", A30 P1.3/XTAL4 (io), A31 P1.2/XTAL3 (io), A33 P1.1/PC1 (io), A34 P1.0/PC0 (io), A35 P0.7/IREF0 (io), A36 P0.6/CNVSTR (io), A37 P0.5/RX (io), A38 P0.4/TX (io), A39 P0.3/XTAL2 (io), A40 P0.2/XTAL1 (io), A41 P0.1/AGND (io), A42 P0.0/VREF (io), A48 P7.0/C2D (io), B1 P6.6/LCD30 (io), B2 P6.5/LCD29 (io), B3 P6.4/LCD28 (io), B4 P6.3/LCD27 (io), B5 P6.2/LCD26 (io), B6 P6.1/LCD25 (io), B7 P6.0/LCD24 (io), B8 P5.7/LCD23 (io), B9 P5.6/LCD22 (io), B10 P2.5/COM1 (io), B12 P5.5/LCD21 (io), B13 P5.4/LCD20 (io), B14 P5.3/LCD19 (io), B15 P5.2/LCD18 (io), B18 P5.1/LCD17 (io), B19 P5.0/LCD16 (io), B20 P4.7/LCD15 (io), B21 P4.6/LCD14 (io), B22 P4.5/LCD13 (io), B23 P4.3/LCD11 (io), B24 P4.2/LCD10 (io), B25 P4.1/LCD9 (io), D1 P6.7/LCD31 (io), D4 P4.4/LCD12 (io), D5 P6.7/LCD31 (io), D7 P1.7 (io) "Port 1.7. See Port I/O Section for a complete description.", D8 P4.4/LCD12 (io)
part B pins: A13 XOUT (in) "Crystal Oscillator Output/External Reference Input. Connect to an external 30 MHz crystal or to an external source. If using an external source with no crystal, then DC coupling with a nominal 0.8 VDC level is recommended (See Datasheet)", A14 XIN "Crystal Oscillator Input. Connect to an external 30 MHz crystal or leave floating when driving with an external source on XOUT.", A15 SDN (in) "Shutdown input pin. SDN should be low in all modes except Shutdown mode. When SDN is high, the radio will be completely shut down, and the contents of the registers will be lost.", A16 NC "No Connect. Not connected internally to any circuitry.", A18 TX (oc) "Transmit output pin. The PA output is an open-drain connection so the L-C match must supply VDD (+3.3 VDC nominal) to this pin.", A19 RXP (in) "Differential RF input pins of the LNA. See application schematic for example matching network.", A20 RXN (in) "Differential RF input pins of the LNA. See application schematic for example matching network.", A21 ANT_A "Extra antenna or TR switch control to be used if more GPIO are required. Pin is a hardwired version of GPIO setting 11000, Antenna 2 and can be manually controlled by the antdiv[2:0] bits in register 08h. See register (See Datasheet)", A22 GPIO_0 (io) "General Purpose Digital I/O that may be configured through the registers to perform various functions including: Microcontroller Clock Output, FIFO status, POR, Wake-Up timer, Low Battery Detect, T/R switch, AntDiversity (See Datasheet)", A23 GPIO_1 (io) "General Purpose Digital I/O that may be configured through the registers to perform various functions including: Microcontroller Clock Output, FIFO status, POR, Wake-Up timer, Low Battery Detect, T/R switch, AntDiversity (See Datasheet)", A24 GPIO_2 (io) "General Purpose Digital I/O that may be configured through the registers to perform various functions including: Microcontroller Clock Output, FIFO status, POR, Wake-Up timer, Low Battery Detect, T/R switch, AntDiversity (See Datasheet)", A47 ~{RST}/C2CK (io), B11 NIRQ (out) "General Microcontroller Interrupt Status output. When the EZRadioPRO transceiver exhibits anyone of the Interrupt Events, the nIRQ pin will be set low. Please see the Control Logic registers section for more information on (See Datasheet)", B27 IND "DC-DC Inductor Pin. This pin requires a 560 nH inductor to VDC if the DC-DC converter is used."
part C pins: A17 VDD_RF (power) "+1.8 to +3.6 V supply voltage input to all analog +1.7 V regulators. The recommended VDD supply voltage is +3.3 V", A25 VDD_DIG (power) "+1.8 to +3.6 V supply voltage input to the Digital +1.7 V regulator. The recommended VDD supply voltage is +3.3 V.", A29 VLCD (power) "LCD Power Supply. This pin requires a 10 uF capacitor to stabilize the charge pump.", A32 GND (power) "Required Ground.", A43 VBAT (power) "Battery Supply Voltage. Must be 1.8 to 3.8 V.", A44 VBATDC (power) "DC0 Input Voltage. Must be 1.8 to 3.8 V.", A45 GNDDC (power) "DC-DC converter return current path. This pin is typically tied to the ground plane.", A46 VDC (power) "Alternate Power Supply Voltage. Must be 1.8 to 3.6 V. This supply voltage must always be <= VBAT. Software may select this supply voltage to power the digital logic. Positive output of the DC-DC converter. A 1 uF to 10 uF (See Datasheet)", B16 GND (power) "Required Ground.", B17 GND (power) "Required Ground.", B26 VIO (power) "I/O Power Supply for P0.0-P1.4 and P2.4-P7.0 pins. This supply voltage must always be <= VBAT.", B28 GND (power) "Required Ground.", B29 VIORF (power) "I/O Power Supply for P1.5-P2.3 pins. This supply voltage must always be <= VBAT", D2 GND (power) "Required Ground.", D3 VR_DIG (power) "Regulated Output Voltage of the Digital 1.7 V regulator. A 1 uF decoupling capacitor is required.", D6 GND (power) "Required Ground.", E0 GND_EPAD (power)

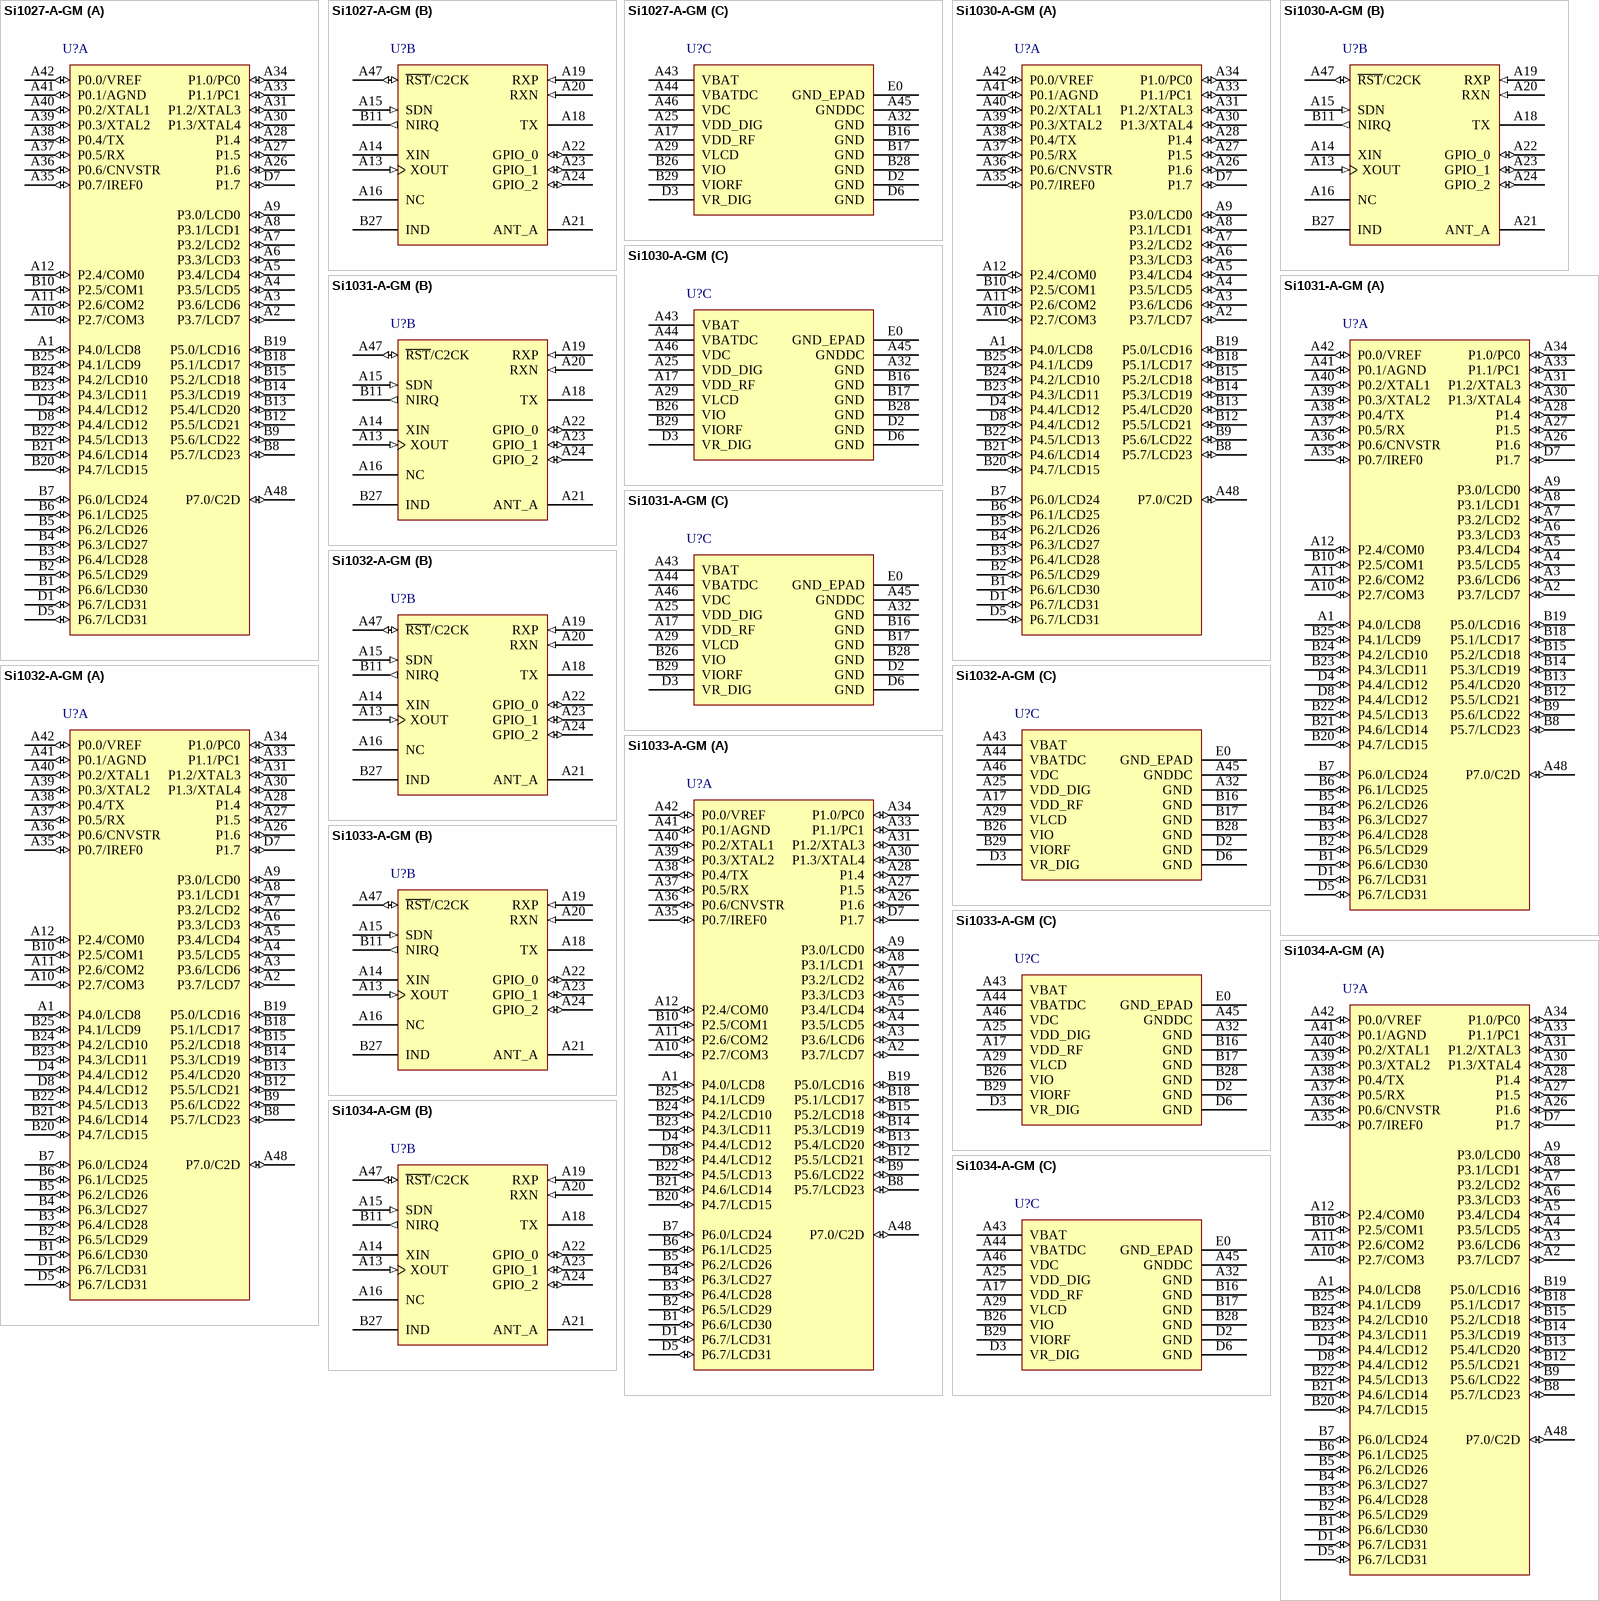
[diagram p3: symbols Si1027-A-GM to Si1034-A-GM]

## Si1027-A-GM
designator U?
Ultra Low Power, LCD MCU Family, 16 kB Flash, 4 Timers (16-Bit), -40 to 85 degC, 85-pin LGA, Tray; Manufacturer: Silicon Labs; PartNumber: Si1027-A-GM; Comparators: 2; Dig I/O Pins: 53; Flash: 16 kB; Frequency Range: 240 to 960 MHz; FSK/GFSK Data Rate: 256 kbps; Internal Osc. Accuracy: +/-2%; OOK Data Rate: 40 kbps; Output Power: -4 to 13 dBm; PCA Channels: 6; Temp Sensor: TRUE; Timers (16-bit): 4; Sub-Family: Wireless MCUs; DatasheetVersion: Rev. 0.3; PackageReference: LGA-85; PackageDescription: 85-Pin Land Grid Array, Body 6 x 8 mm, Pitch 0.5 mm; Supplier 1: Digi-Key; Supplier Part Number 1: 336-2180-ND; Supplier 2: Mouser; Supplier Part Number 2: 634-SI1027-A-GM; Packing: Tray; Mounting Technology: Surface Mount; Code_IPC: J-STD-020; ComponentLink1Description: Manufacturer URL; ComponentLink1URL: http://www.silabs.com/; ComponentLink2Description: Datasheet; ComponentLink2URL: http://www.silabs.com/Support Documents/TechnicalDocs/Si102x-3x.pdf; ComponentLink3Description: Package Specification; ComponentLink3URL: http://www.silabs.com/Support%20Documents/TechnicalDocs/Si102x-3x.pdf
footprint SLAB-LGA-85_V (LGA, 85-Leads, Body 8x6mm, Thermal Pad 2.4x5.6mm)
part A pins: A1 P4.0/LCD8 (io), A2 P3.7/LCD7 (io), A3 P3.6/LCD6 (io), A4 P3.5/LCD5 (io), A5 P3.4/LCD4 (io), A6 P3.3/LCD3 (io), A7 P3.2/LCD2 (io), A8 P3.1/LCD1 (io), A9 P3.0/LCD0 (io), A10 P2.7/COM3 (io), A11 P2.6/COM2 (io), A12 P2.4/COM0 (io), A26 P1.6 (io) "Port 1.6. See Port I/O Section for a complete description.", A27 P1.5 (io) "Port 1.5. See Port I/O Section for a complete description.", A28 P1.4 (io) "Port 1.4. See Port I/O Section for a complete description.", A30 P1.3/XTAL4 (io), A31 P1.2/XTAL3 (io), A33 P1.1/PC1 (io), A34 P1.0/PC0 (io), A35 P0.7/IREF0 (io), A36 P0.6/CNVSTR (io), A37 P0.5/RX (io), A38 P0.4/TX (io), A39 P0.3/XTAL2 (io), A40 P0.2/XTAL1 (io), A41 P0.1/AGND (io), A42 P0.0/VREF (io), A48 P7.0/C2D (io), B1 P6.6/LCD30 (io), B2 P6.5/LCD29 (io), B3 P6.4/LCD28 (io), B4 P6.3/LCD27 (io), B5 P6.2/LCD26 (io), B6 P6.1/LCD25 (io), B7 P6.0/LCD24 (io), B8 P5.7/LCD23 (io), B9 P5.6/LCD22 (io), B10 P2.5/COM1 (io), B12 P5.5/LCD21 (io), B13 P5.4/LCD20 (io), B14 P5.3/LCD19 (io), B15 P5.2/LCD18 (io), B18 P5.1/LCD17 (io), B19 P5.0/LCD16 (io), B20 P4.7/LCD15 (io), B21 P4.6/LCD14 (io), B22 P4.5/LCD13 (io), B23 P4.3/LCD11 (io), B24 P4.2/LCD10 (io), B25 P4.1/LCD9 (io), D1 P6.7/LCD31 (io), D4 P4.4/LCD12 (io), D5 P6.7/LCD31 (io), D7 P1.7 (io) "Port 1.7. See Port I/O Section for a complete description.", D8 P4.4/LCD12 (io)
part B pins: A13 XOUT (in) "Crystal Oscillator Output/External Reference Input. Connect to an external 30 MHz crystal or to an external source. If using an external source with no crystal, then DC coupling with a nominal 0.8 VDC level is recommended (See Datasheet)", A14 XIN "Crystal Oscillator Input. Connect to an external 30 MHz crystal or leave floating when driving with an external source on XOUT.", A15 SDN (in) "Shutdown input pin. SDN should be low in all modes except Shutdown mode. When SDN is high, the radio will be completely shut down, and the contents of the registers will be lost.", A16 NC "No Connect. Not connected internally to any circuitry.", A18 TX (oc) "Transmit output pin. The PA output is an open-drain connection so the L-C match must supply VDD (+3.3 VDC nominal) to this pin.", A19 RXP (in) "Differential RF input pins of the LNA. See application schematic for example matching network.", A20 RXN (in) "Differential RF input pins of the LNA. See application schematic for example matching network.", A21 ANT_A "Extra antenna or TR switch control to be used if more GPIO are required. Pin is a hardwired version of GPIO setting 11000, Antenna 2 and can be manually controlled by the antdiv[2:0] bits in register 08h. See register (See Datasheet)", A22 GPIO_0 (io) "General Purpose Digital I/O that may be configured through the registers to perform various functions including: Microcontroller Clock Output, FIFO status, POR, Wake-Up timer, Low Battery Detect, T/R switch, AntDiversity (See Datasheet)", A23 GPIO_1 (io) "General Purpose Digital I/O that may be configured through the registers to perform various functions including: Microcontroller Clock Output, FIFO status, POR, Wake-Up timer, Low Battery Detect, T/R switch, AntDiversity (See Datasheet)", A24 GPIO_2 (io) "General Purpose Digital I/O that may be configured through the registers to perform various functions including: Microcontroller Clock Output, FIFO status, POR, Wake-Up timer, Low Battery Detect, T/R switch, AntDiversity (See Datasheet)", A47 ~{RST}/C2CK (io), B11 NIRQ (out) "General Microcontroller Interrupt Status output. When the EZRadioPRO transceiver exhibits anyone of the Interrupt Events, the nIRQ pin will be set low. Please see the Control Logic registers section for more information on (See Datasheet)", B27 IND "DC-DC Inductor Pin. This pin requires a 560 nH inductor to VDC if the DC-DC converter is used."
part C pins: A17 VDD_RF (power) "+1.8 to +3.6 V supply voltage input to all analog +1.7 V regulators. The recommended VDD supply voltage is +3.3 V", A25 VDD_DIG (power) "+1.8 to +3.6 V supply voltage input to the Digital +1.7 V regulator. The recommended VDD supply voltage is +3.3 V.", A29 VLCD (power) "LCD Power Supply. This pin requires a 10 uF capacitor to stabilize the charge pump.", A32 GND (power) "Required Ground.", A43 VBAT (power) "Battery Supply Voltage. Must be 1.8 to 3.8 V.", A44 VBATDC (power) "DC0 Input Voltage. Must be 1.8 to 3.8 V.", A45 GNDDC (power) "DC-DC converter return current path. This pin is typically tied to the ground plane.", A46 VDC (power) "Alternate Power Supply Voltage. Must be 1.8 to 3.6 V. This supply voltage must always be <= VBAT. Software may select this supply voltage to power the digital logic. Positive output of the DC-DC converter. A 1 uF to 10 uF (See Datasheet)", B16 GND (power) "Required Ground.", B17 GND (power) "Required Ground.", B26 VIO (power) "I/O Power Supply for P0.0-P1.4 and P2.4-P7.0 pins. This supply voltage must always be <= VBAT.", B28 GND (power) "Required Ground.", B29 VIORF (power) "I/O Power Supply for P1.5-P2.3 pins. This supply voltage must always be <= VBAT", D2 GND (power) "Required Ground.", D3 VR_DIG (power) "Regulated Output Voltage of the Digital 1.7 V regulator. A 1 uF decoupling capacitor is required.", D6 GND (power) "Required Ground.", E0 GND_EPAD (power)